# Altium footprint library Transducer.PcbLib: 1 footprints
Each footprint in its own frame and in the unit in brackets; x right, y up, seen from the top. Pads: shape width x height; smd on the part's side, far side on the other; paste and mask are expansions set on the pad; w line width, h text height; cw(c..) or ccw(c..) is an arc to the next point about the centre after c.
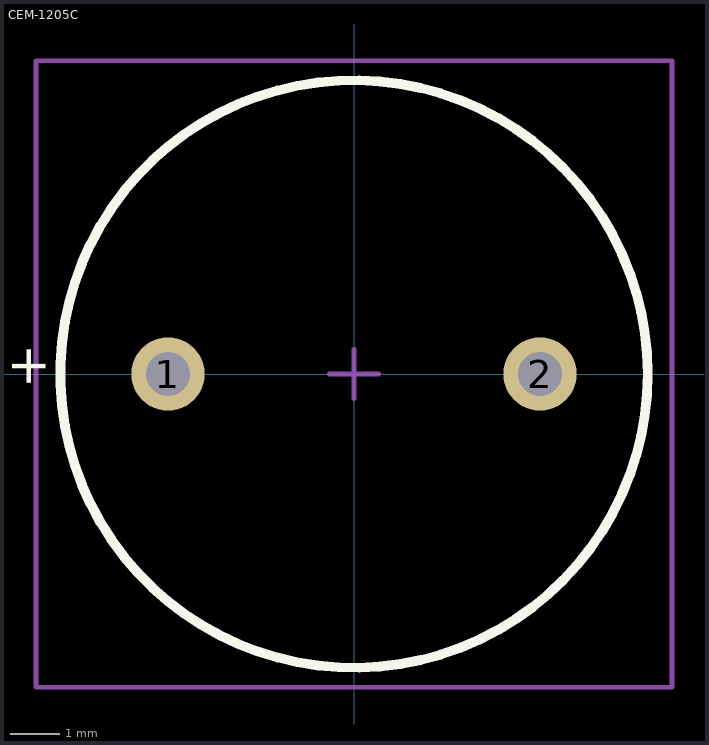
[diagram p0: the footprint, top view; thin cyan lines are the x and y axes]

## CEM-1205C [mm]
height 9.5
pads (2):
  round 1.5 hole 0.9: 1(-3.8,0) 2(3.8,0)
Top Overlay:
  circle w0.2: c0,0 r6
  text "+" at -6.3,-0.3 h0.8
Mechanical 15:
  lines w0.1: -0.5,0 0.5,0 ; 0,-0.5 0,0.5 ; -6.5,-6.4 -6.5,6.4 6.5,6.4 6.5,-6.4 -6.5,-6.4
3D body: height 9.5, standoff -3.5, extent -6,-6 6,6